# Altium footprint library lambda.PcbLib: 1 footprints
Each footprint in its own frame and in the unit in brackets; x right, y up, seen from the top. Pads: shape width x height; smd on the part's side, far side on the other; paste and mask are expansions set on the pad; w line width, h text height; cw(c..) or ccw(c..) is an arc to the next point about the centre after c.
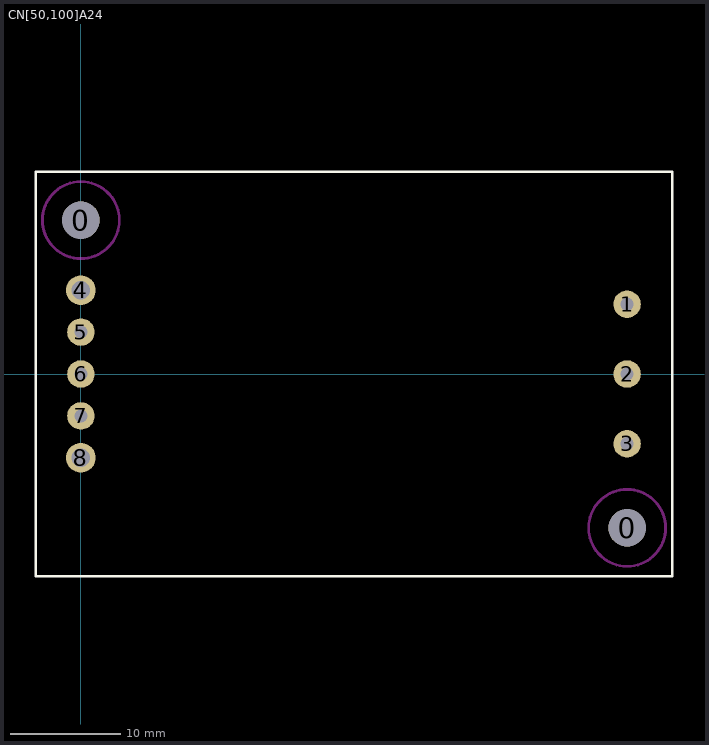
[diagram p0: the footprint, top view; thin cyan lines are the x and y axes]

## CN[50,100]A24 [mm]
height 12.7
pads (10):
  round 3.4 hole 3.4 unplated: 0(0,14) 0(49.7,-14)
  round 2.5 hole 1.2: 1(49.7,6.35) 2(49.7,0) 3(49.7,-6.35) 5(0,3.81) 6(0,0) 7(0,-3.81)
  round 2.7 hole 1.7: 4(0,7.62) 8(0,-7.62)
Top Overlay:
  lines w0.254: -4.1,-18.4 -4.1,18.4 53.8,18.4 53.8,-18.4 -4.1,-18.4
Keep-Out Layer:
  circle w0.254: c0,14 r3.5
  circle w0.254: c49.7,-14 r3.5
3D body: height 12.8, standoff -4.9, extent -4.052,-18.4 53.848,18.4